# Altium schematic symbol library SCH - MCU - RENESAS - RENESAS R7FS3A67XXXXXXFP 100LQFP.SchLib: 1 symbol
Pins are listed as number, name and electrical type; pins without a type are passive.

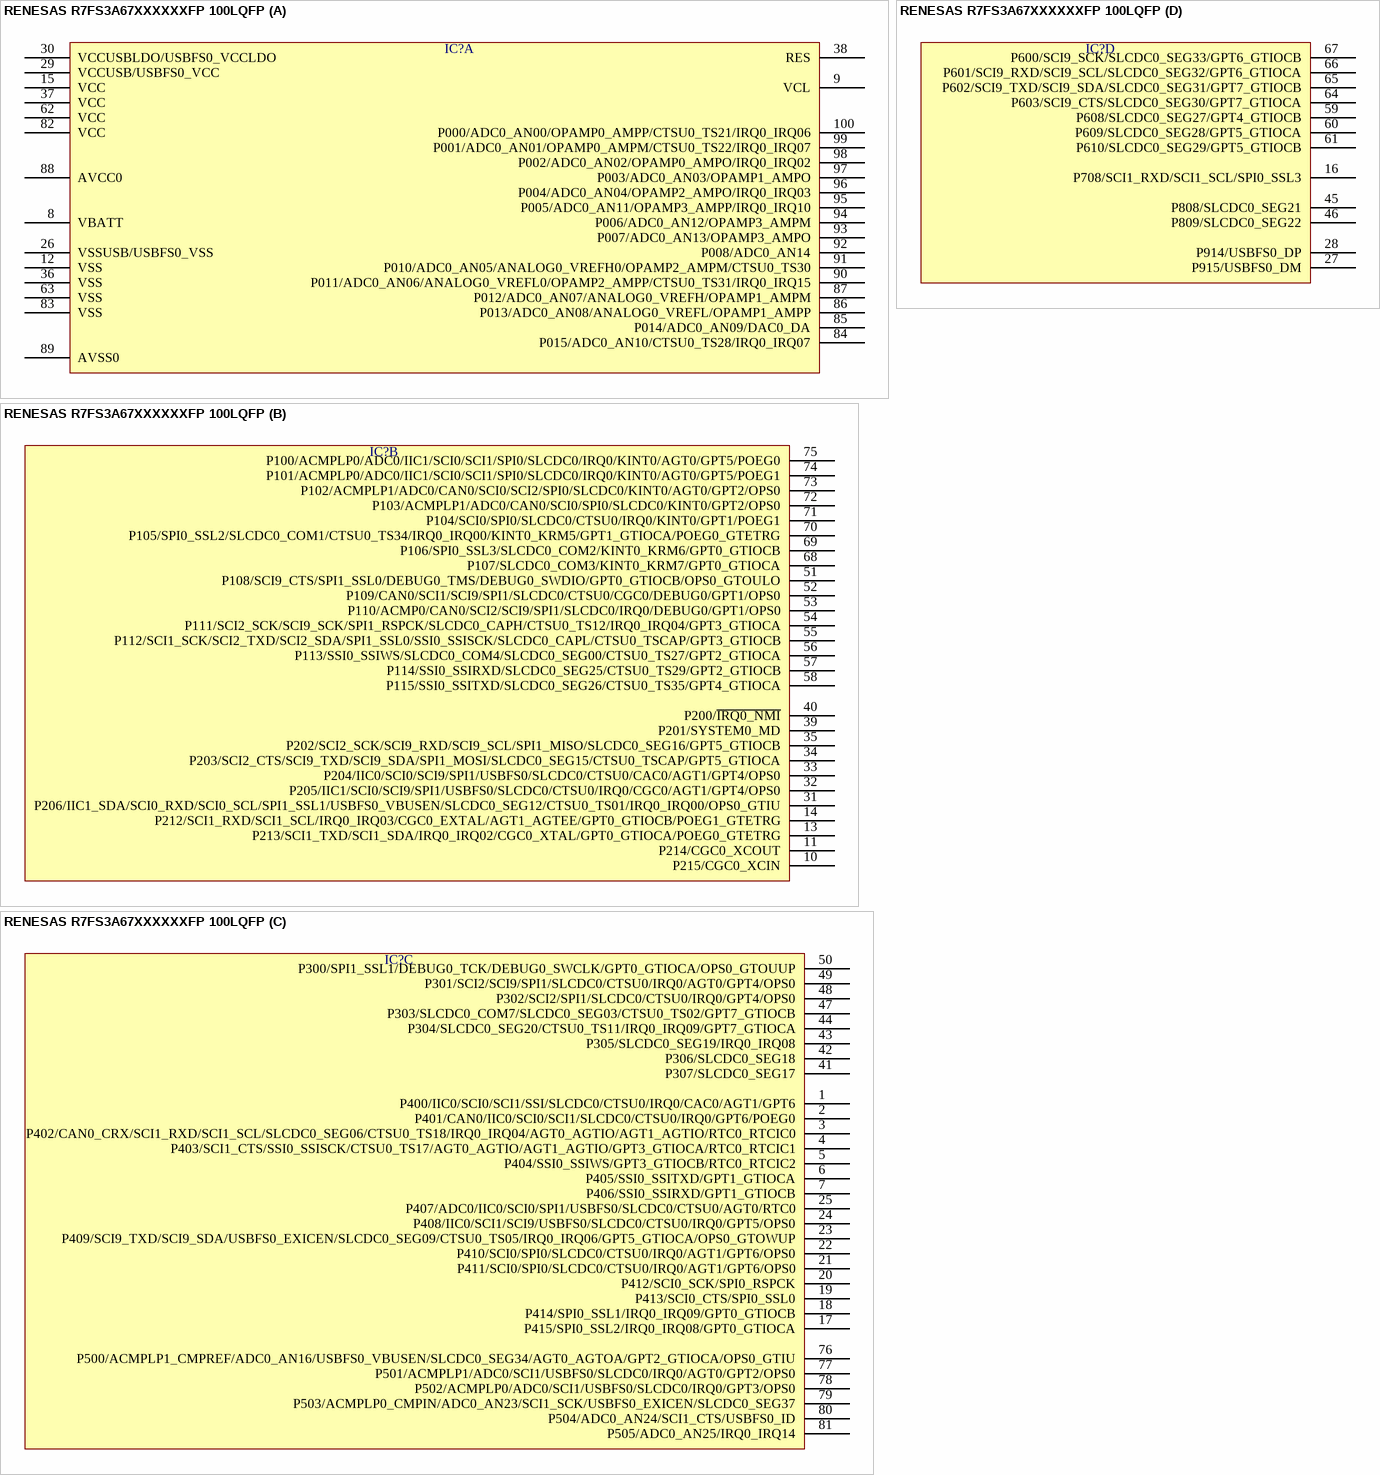
[diagram p0: symbol RENESAS R7FS3A67XXXXXXFP 100LQFP]

## RENESAS R7FS3A67XXXXXXFP 100LQFP
designator IC?  (value not drawn)
part A pins: 8 VBATT, 9 VCL, 12 VSS, 15 VCC, 26 VSSUSB/USBFS0_VSS, 29 VCCUSB/USBFS0_VCC, 30 VCCUSBLDO/USBFS0_VCCLDO, 36 VSS, 37 VCC, 38 RES, 62 VCC, 63 VSS, 82 VCC, 83 VSS, 84 P015/ADC0_AN10/CTSU0_TS28/IRQ0_IRQ07, 85 P014/ADC0_AN09/DAC0_DA, 86 P013/ADC0_AN08/ANALOG0_VREFL/OPAMP1_AMPP, 87 P012/ADC0_AN07/ANALOG0_VREFH/OPAMP1_AMPM, 88 AVCC0, 89 AVSS0, 90 P011/ADC0_AN06/ANALOG0_VREFL0/OPAMP2_AMPP/CTSU0_TS31/IRQ0_IRQ15, 91 P010/ADC0_AN05/ANALOG0_VREFH0/OPAMP2_AMPM/CTSU0_TS30, 92 P008/ADC0_AN14, 93 P007/ADC0_AN13/OPAMP3_AMPO, 94 P006/ADC0_AN12/OPAMP3_AMPM, 95 P005/ADC0_AN11/OPAMP3_AMPP/IRQ0_IRQ10, 96 P004/ADC0_AN04/OPAMP2_AMPO/IRQ0_IRQ03, 97 P003/ADC0_AN03/OPAMP1_AMPO, 98 P002/ADC0_AN02/OPAMP0_AMPO/IRQ0_IRQ02, 99 P001/ADC0_AN01/OPAMP0_AMPM/CTSU0_TS22/IRQ0_IRQ07, 100 P000/ADC0_AN00/OPAMP0_AMPP/CTSU0_TS21/IRQ0_IRQ06
part B pins: 10 P215/CGC0_XCIN, 11 P214/CGC0_XCOUT, 13 P213/SCI1_TXD/SCI1_SDA/IRQ0_IRQ02/CGC0_XTAL/GPT0_GTIOCA/POEG0_GTETRG, 14 P212/SCI1_RXD/SCI1_SCL/IRQ0_IRQ03/CGC0_EXTAL/AGT1_AGTEE/GPT0_GTIOCB/POEG1_GTETRG, 31 P206/IIC1_SDA/SCI0_RXD/SCI0_SCL/SPI1_SSL1/USBFS0_VBUSEN/SLCDC0_SEG12/CTSU0_TS01/IRQ0_IRQ00/OPS0_GTIU, 32 P205/IIC1/SCI0/SCI9/SPI1/USBFS0/SLCDC0/CTSU0/IRQ0/CGC0/AGT1/GPT4/OPS0, 33 P204/IIC0/SCI0/SCI9/SPI1/USBFS0/SLCDC0/CTSU0/CAC0/AGT1/GPT4/OPS0, 34 P203/SCI2_CTS/SCI9_TXD/SCI9_SDA/SPI1_MOSI/SLCDC0_SEG15/CTSU0_TSCAP/GPT5_GTIOCA, 35 P202/SCI2_SCK/SCI9_RXD/SCI9_SCL/SPI1_MISO/SLCDC0_SEG16/GPT5_GTIOCB, 39 P201/SYSTEM0_MD, 40 P200/~{IRQ0_NMI}, 51 P108/SCI9_CTS/SPI1_SSL0/DEBUG0_TMS/DEBUG0_SWDIO/GPT0_GTIOCB/OPS0_GTOULO, 52 P109/CAN0/SCI1/SCI9/SPI1/SLCDC0/CTSU0/CGC0/DEBUG0/GPT1/OPS0, 53 P110/ACMP0/CAN0/SCI2/SCI9/SPI1/SLCDC0/IRQ0/DEBUG0/GPT1/OPS0, 54 P111/SCI2_SCK/SCI9_SCK/SPI1_RSPCK/SLCDC0_CAPH/CTSU0_TS12/IRQ0_IRQ04/GPT3_GTIOCA, 55 P112/SCI1_SCK/SCI2_TXD/SCI2_SDA/SPI1_SSL0/SSI0_SSISCK/SLCDC0_CAPL/CTSU0_TSCAP/GPT3_GTIOCB, 56 P113/SSI0_SSIWS/SLCDC0_COM4/SLCDC0_SEG00/CTSU0_TS27/GPT2_GTIOCA, 57 P114/SSI0_SSIRXD/SLCDC0_SEG25/CTSU0_TS29/GPT2_GTIOCB, 58 P115/SSI0_SSITXD/SLCDC0_SEG26/CTSU0_TS35/GPT4_GTIOCA, 68 P107/SLCDC0_COM3/KINT0_KRM7/GPT0_GTIOCA, 69 P106/SPI0_SSL3/SLCDC0_COM2/KINT0_KRM6/GPT0_GTIOCB, 70 P105/SPI0_SSL2/SLCDC0_COM1/CTSU0_TS34/IRQ0_IRQ00/KINT0_KRM5/GPT1_GTIOCA/POEG0_GTETRG, 71 P104/SCI0/SPI0/SLCDC0/CTSU0/IRQ0/KINT0/GPT1/POEG1, 72 P103/ACMPLP1/ADC0/CAN0/SCI0/SPI0/SLCDC0/KINT0/GPT2/OPS0, 73 P102/ACMPLP1/ADC0/CAN0/SCI0/SCI2/SPI0/SLCDC0/KINT0/AGT0/GPT2/OPS0, 74 P101/ACMPLP0/ADC0/IIC1/SCI0/SCI1/SPI0/SLCDC0/IRQ0/KINT0/AGT0/GPT5/POEG1, 75 P100/ACMPLP0/ADC0/IIC1/SCI0/SCI1/SPI0/SLCDC0/IRQ0/KINT0/AGT0/GPT5/POEG0
part C pins: 1 P400/IIC0/SCI0/SCI1/SSI/SLCDC0/CTSU0/IRQ0/CAC0/AGT1/GPT6, 2 P401/CAN0/IIC0/SCI0/SCI1/SLCDC0/CTSU0/IRQ0/GPT6/POEG0, 3 P402/CAN0_CRX/SCI1_RXD/SCI1_SCL/SLCDC0_SEG06/CTSU0_TS18/IRQ0_IRQ04/AGT0_AGTIO/AGT1_AGTIO/RTC0_RTCIC0, 4 P403/SCI1_CTS/SSI0_SSISCK/CTSU0_TS17/AGT0_AGTIO/AGT1_AGTIO/GPT3_GTIOCA/RTC0_RTCIC1, 5 P404/SSI0_SSIWS/GPT3_GTIOCB/RTC0_RTCIC2, 6 P405/SSI0_SSITXD/GPT1_GTIOCA, 7 P406/SSI0_SSIRXD/GPT1_GTIOCB, 17 P415/SPI0_SSL2/IRQ0_IRQ08/GPT0_GTIOCA, 18 P414/SPI0_SSL1/IRQ0_IRQ09/GPT0_GTIOCB, 19 P413/SCI0_CTS/SPI0_SSL0, 20 P412/SCI0_SCK/SPI0_RSPCK, 21 P411/SCI0/SPI0/SLCDC0/CTSU0/IRQ0/AGT1/GPT6/OPS0, 22 P410/SCI0/SPI0/SLCDC0/CTSU0/IRQ0/AGT1/GPT6/OPS0, 23 P409/SCI9_TXD/SCI9_SDA/USBFS0_EXICEN/SLCDC0_SEG09/CTSU0_TS05/IRQ0_IRQ06/GPT5_GTIOCA/OPS0_GTOWUP, 24 P408/IIC0/SCI1/SCI9/USBFS0/SLCDC0/CTSU0/IRQ0/GPT5/OPS0, 25 P407/ADC0/IIC0/SCI0/SPI1/USBFS0/SLCDC0/CTSU0/AGT0/RTC0, 41 P307/SLCDC0_SEG17, 42 P306/SLCDC0_SEG18, 43 P305/SLCDC0_SEG19/IRQ0_IRQ08, 44 P304/SLCDC0_SEG20/CTSU0_TS11/IRQ0_IRQ09/GPT7_GTIOCA, 47 P303/SLCDC0_COM7/SLCDC0_SEG03/CTSU0_TS02/GPT7_GTIOCB, 48 P302/SCI2/SPI1/SLCDC0/CTSU0/IRQ0/GPT4/OPS0, 49 P301/SCI2/SCI9/SPI1/SLCDC0/CTSU0/IRQ0/AGT0/GPT4/OPS0, 50 P300/SPI1_SSL1/DEBUG0_TCK/DEBUG0_SWCLK/GPT0_GTIOCA/OPS0_GTOUUP, 76 P500/ACMPLP1_CMPREF/ADC0_AN16/USBFS0_VBUSEN/SLCDC0_SEG34/AGT0_AGTOA/GPT2_GTIOCA/OPS0_GTIU, 77 P501/ACMPLP1/ADC0/SCI1/USBFS0/SLCDC0/IRQ0/AGT0/GPT2/OPS0, 78 P502/ACMPLP0/ADC0/SCI1/USBFS0/SLCDC0/IRQ0/GPT3/OPS0, 79 P503/ACMPLP0_CMPIN/ADC0_AN23/SCI1_SCK/USBFS0_EXICEN/SLCDC0_SEG37, 80 P504/ADC0_AN24/SCI1_CTS/USBFS0_ID, 81 P505/ADC0_AN25/IRQ0_IRQ14
part D pins: 16 P708/SCI1_RXD/SCI1_SCL/SPI0_SSL3, 27 P915/USBFS0_DM, 28 P914/USBFS0_DP, 45 P808/SLCDC0_SEG21, 46 P809/SLCDC0_SEG22, 59 P608/SLCDC0_SEG27/GPT4_GTIOCB, 60 P609/SLCDC0_SEG28/GPT5_GTIOCA, 61 P610/SLCDC0_SEG29/GPT5_GTIOCB, 64 P603/SCI9_CTS/SLCDC0_SEG30/GPT7_GTIOCA, 65 P602/SCI9_TXD/SCI9_SDA/SLCDC0_SEG31/GPT7_GTIOCB, 66 P601/SCI9_RXD/SCI9_SCL/SLCDC0_SEG32/GPT6_GTIOCA, 67 P600/SCI9_SCK/SLCDC0_SEG33/GPT6_GTIOCB